# EAGLE library part IRS2186 (library zkseagle)
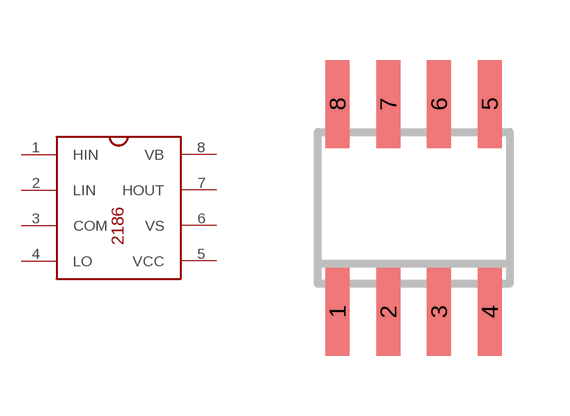
[diagram p3: symbol with the pads of SO08; footprint SO08]

Designator prefix -

## IRS2186  [SO08]
1  HIN  in
2  LIN  in
3  COM  pwr
4  LO  out
5  VCC  pwr
6  VS  pwr
7  HOUT  out
8  VB  pwr

## Footprint SO08 (pad centres in mm)
Small Outline Package 8 NS Package M08A
smd 0.6 x 2.2: 1 -1.905,-2.6; 2 -0.635,-2.6; 3 0.635,-2.6; 4 1.905,-2.6; 5 1.905,2.6; 6 0.635,2.6; 7 -0.635,2.6; 8 -1.905,2.6